# Altium footprint library TerminalBlock_RND.PcbLib: 132 footprints (part 8 of 9)
Each footprint in its own frame and in the unit in brackets; x right, y up, seen from the top. Pads: shape width x height; smd on the part's side, far side on the other; paste and mask are expansions set on the pad; w line width, h text height; cw(c..) or ccw(c..) is an arc to the next point about the centre after c.
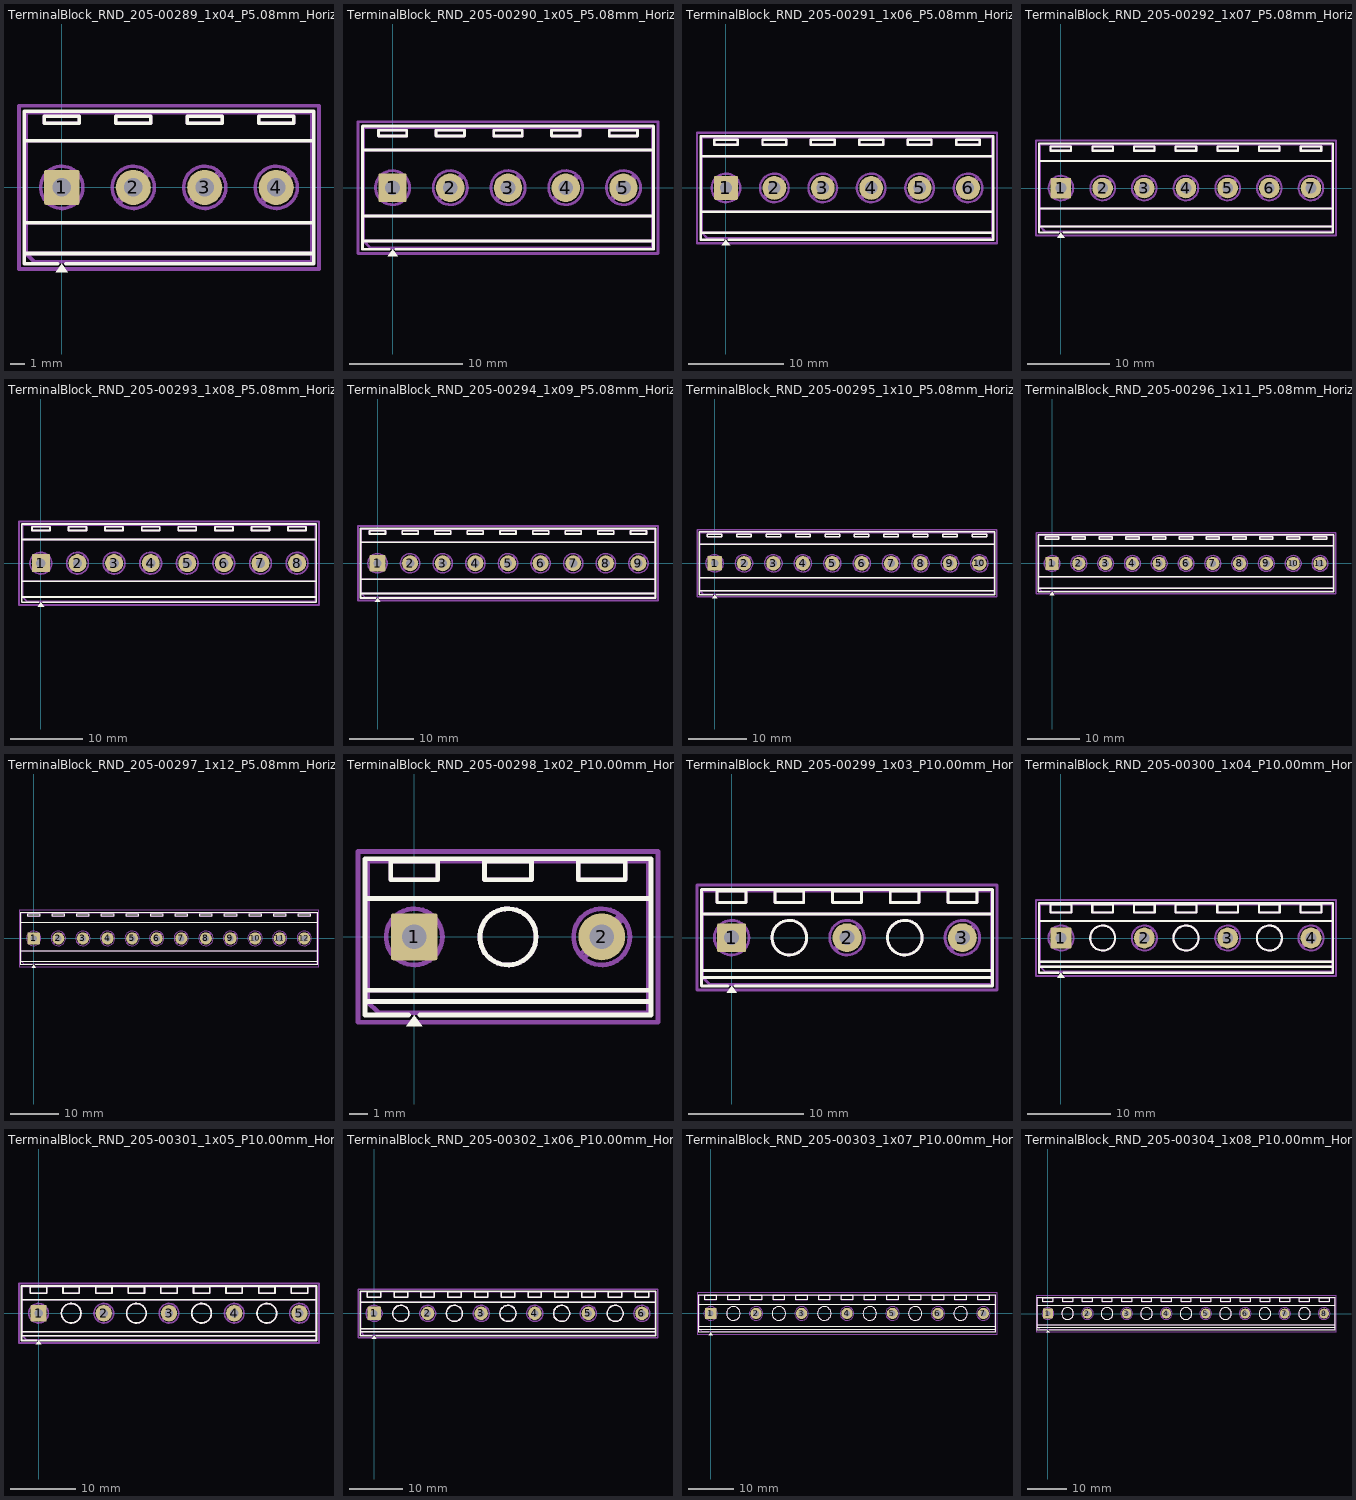
[diagram p7: the footprints below, top view; thin cyan lines are the x and y axes]

## TerminalBlock_RND_205-00289_1x04_P5.08mm_Horizontal [mm]
pads (4):
  rrect10% 2.5x2.5 hole 1.3: 1(0,0)
  round 2.5 hole 1.3: 2(5.08,0) 3(10.16,0) 4(15.24,0)
F.SilkS:
  region: 0.44,-6.03 -0.44,-6.03 0,-5.42
  lines w0.254: -2.66,-4.7 17.9,-4.7 ; -2.66,-2.5 17.9,-2.5 ; -2.66,3.3 17.9,3.3 ; -0.3,-5.42 -2.66,-5.42 -2.66,5.42 17.9,5.42 17.9,-5.42 0.3,-5.42 ; -1.25,4.55 -1.25,5.05 1.25,5.05 1.25,4.55 -1.25,4.55 ; 3.83,4.55 3.83,5.05 6.33,5.05 6.33,4.55 3.83,4.55 ; 8.91,4.55 8.91,5.05 11.41,5.05 11.41,4.55 8.91,4.55 ; 13.99,4.55 13.99,5.05 16.49,5.05 16.49,4.55 13.99,4.55
F.Fab:
  circle w0.254: c0,0 r1.5
  circle w0.254: c5.08,0 r1.5
  circle w0.254: c10.16,0 r1.5
  circle w0.254: c15.24,0 r1.5
  lines w0.254: -2.54,-2.5 17.78,-2.5 ; -2.54,3.3 17.78,3.3 ; -1.138,-0.955 0.955,1.138 ; -0.955,-1.138 1.138,0.955 ; 3.942,-0.955 6.035,1.138 ; 4.125,-1.138 6.218,0.955 ; 9.022,-0.955 11.115,1.138 ; 9.205,-1.138 11.298,0.955 ; 14.102,-0.955 16.195,1.138 ; 14.285,-1.138 16.378,0.955 ; 17.78,-4.7 -2.54,-4.7 ; -2.54,-4.7 -2.54,5.3 17.78,5.3 17.78,-5.3 -1.94,-5.3 -2.54,-4.7 ; -1.25,4.55 -1.25,5.05 1.25,5.05 1.25,4.55 -1.25,4.55 ; 3.83,4.55 3.83,5.05 6.33,5.05 6.33,4.55 3.83,4.55 ; 8.91,4.55 8.91,5.05 11.41,5.05 11.41,4.55 8.91,4.55 ; 13.99,4.55 13.99,5.05 16.49,5.05 16.49,4.55 13.99,4.55
  text "'.Designator'" at 3.573,5.58 h1
F.CrtYd:
  lines w0.254: -3.04,-5.8 -3.04,5.8 18.28,5.8 18.28,-5.8 -3.04,-5.8

## TerminalBlock_RND_205-00290_1x05_P5.08mm_Horizontal [mm]
pads (5):
  rrect10% 2.5x2.5 hole 1.3: 1(0,0)
  round 2.5 hole 1.3: 2(5.08,0) 3(10.16,0) 4(15.24,0) 5(20.32,0)
F.SilkS:
  region: 0.44,-6.03 -0.44,-6.03 0,-5.42
  lines w0.254: -2.66,-4.7 22.98,-4.7 ; -2.66,-2.5 22.98,-2.5 ; -2.66,3.3 22.98,3.3 ; -0.3,-5.42 -2.66,-5.42 -2.66,5.42 22.98,5.42 22.98,-5.42 0.3,-5.42 ; -1.25,4.55 -1.25,5.05 1.25,5.05 1.25,4.55 -1.25,4.55 ; 3.83,4.55 3.83,5.05 6.33,5.05 6.33,4.55 3.83,4.55 ; 8.91,4.55 8.91,5.05 11.41,5.05 11.41,4.55 8.91,4.55 ; 13.99,4.55 13.99,5.05 16.49,5.05 16.49,4.55 13.99,4.55 ; 19.07,4.55 19.07,5.05 21.57,5.05 21.57,4.55 19.07,4.55
F.Fab:
  circle w0.254: c0,0 r1.5
  circle w0.254: c5.08,0 r1.5
  circle w0.254: c10.16,0 r1.5
  circle w0.254: c15.24,0 r1.5
  circle w0.254: c20.32,0 r1.5
  lines w0.254: -2.54,-2.5 22.86,-2.5 ; -2.54,3.3 22.86,3.3 ; -1.138,-0.955 0.955,1.138 ; -0.955,-1.138 1.138,0.955 ; 3.942,-0.955 6.035,1.138 ; 4.125,-1.138 6.218,0.955 ; 9.022,-0.955 11.115,1.138 ; 9.205,-1.138 11.298,0.955 ; 14.102,-0.955 16.195,1.138 ; 14.285,-1.138 16.378,0.955 ; 19.182,-0.955 21.275,1.138 ; 19.365,-1.138 21.458,0.955 ; 22.86,-4.7 -2.54,-4.7 ; -2.54,-4.7 -2.54,5.3 22.86,5.3 22.86,-5.3 -1.94,-5.3 -2.54,-4.7 ; -1.25,4.55 -1.25,5.05 1.25,5.05 1.25,4.55 -1.25,4.55 ; 3.83,4.55 3.83,5.05 6.33,5.05 6.33,4.55 3.83,4.55 ; 8.91,4.55 8.91,5.05 11.41,5.05 11.41,4.55 8.91,4.55 ; 13.99,4.55 13.99,5.05 16.49,5.05 16.49,4.55 13.99,4.55 ; 19.07,4.55 19.07,5.05 21.57,5.05 21.57,4.55 19.07,4.55
  text "'.Designator'" at 6.113,5.58 h1
F.CrtYd:
  lines w0.254: -3.04,-5.8 -3.04,5.8 23.36,5.8 23.36,-5.8 -3.04,-5.8

## TerminalBlock_RND_205-00291_1x06_P5.08mm_Horizontal [mm]
pads (6):
  rrect10% 2.5x2.5 hole 1.3: 1(0,0)
  round 2.5 hole 1.3: 2(5.08,0) 3(10.16,0) 4(15.24,0) 5(20.32,0) 6(25.4,0)
F.SilkS:
  region: 0.44,-6.03 -0.44,-6.03 0,-5.42
  lines w0.254: -2.66,-4.7 28.06,-4.7 ; -2.66,-2.5 28.06,-2.5 ; -2.66,3.3 28.06,3.3 ; -0.3,-5.42 -2.66,-5.42 -2.66,5.42 28.06,5.42 28.06,-5.42 0.3,-5.42 ; -1.25,4.55 -1.25,5.05 1.25,5.05 1.25,4.55 -1.25,4.55 ; 3.83,4.55 3.83,5.05 6.33,5.05 6.33,4.55 3.83,4.55 ; 8.91,4.55 8.91,5.05 11.41,5.05 11.41,4.55 8.91,4.55 ; 13.99,4.55 13.99,5.05 16.49,5.05 16.49,4.55 13.99,4.55 ; 19.07,4.55 19.07,5.05 21.57,5.05 21.57,4.55 19.07,4.55 ; 24.15,4.55 24.15,5.05 26.65,5.05 26.65,4.55 24.15,4.55
F.Fab:
  circle w0.254: c0,0 r1.5
  circle w0.254: c5.08,0 r1.5
  circle w0.254: c10.16,0 r1.5
  circle w0.254: c15.24,0 r1.5
  circle w0.254: c20.32,0 r1.5
  circle w0.254: c25.4,0 r1.5
  lines w0.254: -2.54,-2.5 27.94,-2.5 ; -2.54,3.3 27.94,3.3 ; -1.138,-0.955 0.955,1.138 ; -0.955,-1.138 1.138,0.955 ; 3.942,-0.955 6.035,1.138 ; 4.125,-1.138 6.218,0.955 ; 9.022,-0.955 11.115,1.138 ; 9.205,-1.138 11.298,0.955 ; 14.102,-0.955 16.195,1.138 ; 14.285,-1.138 16.378,0.955 ; 19.182,-0.955 21.275,1.138 ; 19.365,-1.138 21.458,0.955 ; 24.262,-0.955 26.355,1.138 ; 24.445,-1.138 26.538,0.955 ; 27.94,-4.7 -2.54,-4.7 ; -2.54,-4.7 -2.54,5.3 27.94,5.3 27.94,-5.3 -1.94,-5.3 -2.54,-4.7 ; -1.25,4.55 -1.25,5.05 1.25,5.05 1.25,4.55 -1.25,4.55 ; 3.83,4.55 3.83,5.05 6.33,5.05 6.33,4.55 3.83,4.55 ; 8.91,4.55 8.91,5.05 11.41,5.05 11.41,4.55 8.91,4.55 ; 13.99,4.55 13.99,5.05 16.49,5.05 16.49,4.55 13.99,4.55 ; 19.07,4.55 19.07,5.05 21.57,5.05 21.57,4.55 19.07,4.55 ; 24.15,4.55 24.15,5.05 26.65,5.05 26.65,4.55 24.15,4.55
  text "'.Designator'" at 8.653,5.58 h1
F.CrtYd:
  lines w0.254: -3.04,-5.8 -3.04,5.8 28.44,5.8 28.44,-5.8 -3.04,-5.8

## TerminalBlock_RND_205-00292_1x07_P5.08mm_Horizontal [mm]
pads (7):
  rrect10% 2.5x2.5 hole 1.3: 1(0,0)
  round 2.5 hole 1.3: 2(5.08,0) 3(10.16,0) 4(15.24,0) 5(20.32,0) 6(25.4,0) 7(30.48,0)
F.SilkS:
  region: 0.44,-6.03 -0.44,-6.03 0,-5.42
  lines w0.254: -2.66,-4.7 33.14,-4.7 ; -2.66,-2.5 33.14,-2.5 ; -2.66,3.3 33.14,3.3 ; -0.3,-5.42 -2.66,-5.42 -2.66,5.42 33.14,5.42 33.14,-5.42 0.3,-5.42 ; -1.25,4.55 -1.25,5.05 1.25,5.05 1.25,4.55 -1.25,4.55 ; 3.83,4.55 3.83,5.05 6.33,5.05 6.33,4.55 3.83,4.55 ; 8.91,4.55 8.91,5.05 11.41,5.05 11.41,4.55 8.91,4.55 ; 13.99,4.55 13.99,5.05 16.49,5.05 16.49,4.55 13.99,4.55 ; 19.07,4.55 19.07,5.05 21.57,5.05 21.57,4.55 19.07,4.55 ; 24.15,4.55 24.15,5.05 26.65,5.05 26.65,4.55 24.15,4.55 ; 29.23,4.55 29.23,5.05 31.73,5.05 31.73,4.55 29.23,4.55
F.Fab:
  circle w0.254: c0,0 r1.5
  circle w0.254: c5.08,0 r1.5
  circle w0.254: c10.16,0 r1.5
  circle w0.254: c15.24,0 r1.5
  circle w0.254: c20.32,0 r1.5
  circle w0.254: c25.4,0 r1.5
  circle w0.254: c30.48,0 r1.5
  lines w0.254: -2.54,-2.5 33.02,-2.5 ; -2.54,3.3 33.02,3.3 ; -1.138,-0.955 0.955,1.138 ; -0.955,-1.138 1.138,0.955 ; 3.942,-0.955 6.035,1.138 ; 4.125,-1.138 6.218,0.955 ; 9.022,-0.955 11.115,1.138 ; 9.205,-1.138 11.298,0.955 ; 14.102,-0.955 16.195,1.138 ; 14.285,-1.138 16.378,0.955 ; 19.182,-0.955 21.275,1.138 ; 19.365,-1.138 21.458,0.955 ; 24.262,-0.955 26.355,1.138 ; 24.445,-1.138 26.538,0.955 ; 29.342,-0.955 31.435,1.138 ; 29.525,-1.138 31.618,0.955 ; 33.02,-4.7 -2.54,-4.7 ; -2.54,-4.7 -2.54,5.3 33.02,5.3 33.02,-5.3 -1.94,-5.3 -2.54,-4.7 ; -1.25,4.55 -1.25,5.05 1.25,5.05 1.25,4.55 -1.25,4.55 ; 3.83,4.55 3.83,5.05 6.33,5.05 6.33,4.55 3.83,4.55 ; 8.91,4.55 8.91,5.05 11.41,5.05 11.41,4.55 8.91,4.55 ; 13.99,4.55 13.99,5.05 16.49,5.05 16.49,4.55 13.99,4.55 ; 19.07,4.55 19.07,5.05 21.57,5.05 21.57,4.55 19.07,4.55 ; 24.15,4.55 24.15,5.05 26.65,5.05 26.65,4.55 24.15,4.55 ; 29.23,4.55 29.23,5.05 31.73,5.05 31.73,4.55 29.23,4.55
  text "'.Designator'" at 11.193,5.58 h1
F.CrtYd:
  lines w0.254: -3.04,-5.8 -3.04,5.8 33.53,5.8 33.53,-5.8 -3.04,-5.8

## TerminalBlock_RND_205-00293_1x08_P5.08mm_Horizontal [mm]
pads (8):
  rrect10% 2.5x2.5 hole 1.3: 1(0,0)
  round 2.5 hole 1.3: 2(5.08,0) 3(10.16,0) 4(15.24,0) 5(20.32,0) 6(25.4,0) 7(30.48,0) 8(35.56,0)
F.SilkS:
  region: 0.44,-6.03 -0.44,-6.03 0,-5.42
  lines w0.254: -2.66,-4.7 38.22,-4.7 ; -2.66,-2.5 38.22,-2.5 ; -2.66,3.3 38.22,3.3 ; -0.3,-5.42 -2.66,-5.42 -2.66,5.42 38.22,5.42 38.22,-5.42 0.3,-5.42 ; -1.25,4.55 -1.25,5.05 1.25,5.05 1.25,4.55 -1.25,4.55 ; 3.83,4.55 3.83,5.05 6.33,5.05 6.33,4.55 3.83,4.55 ; 8.91,4.55 8.91,5.05 11.41,5.05 11.41,4.55 8.91,4.55 ; 13.99,4.55 13.99,5.05 16.49,5.05 16.49,4.55 13.99,4.55 ; 19.07,4.55 19.07,5.05 21.57,5.05 21.57,4.55 19.07,4.55 ; 24.15,4.55 24.15,5.05 26.65,5.05 26.65,4.55 24.15,4.55 ; 29.23,4.55 29.23,5.05 31.73,5.05 31.73,4.55 29.23,4.55 ; 34.31,4.55 34.31,5.05 36.81,5.05 36.81,4.55 34.31,4.55
F.Fab:
  circle w0.254: c0,0 r1.5
  circle w0.254: c5.08,0 r1.5
  circle w0.254: c10.16,0 r1.5
  circle w0.254: c15.24,0 r1.5
  circle w0.254: c20.32,0 r1.5
  circle w0.254: c25.4,0 r1.5
  circle w0.254: c30.48,0 r1.5
  circle w0.254: c35.56,0 r1.5
  lines w0.254: -2.54,-2.5 38.1,-2.5 ; -2.54,3.3 38.1,3.3 ; -1.138,-0.955 0.955,1.138 ; -0.955,-1.138 1.138,0.955 ; 3.942,-0.955 6.035,1.138 ; 4.125,-1.138 6.218,0.955 ; 9.022,-0.955 11.115,1.138 ; 9.205,-1.138 11.298,0.955 ; 14.102,-0.955 16.195,1.138 ; 14.285,-1.138 16.378,0.955 ; 19.182,-0.955 21.275,1.138 ; 19.365,-1.138 21.458,0.955 ; 24.262,-0.955 26.355,1.138 ; 24.445,-1.138 26.538,0.955 ; 29.342,-0.955 31.435,1.138 ; 29.525,-1.138 31.618,0.955 ; 34.422,-0.955 36.515,1.138 ; 34.605,-1.138 36.698,0.955 ; 38.1,-4.7 -2.54,-4.7 ; -2.54,-4.7 -2.54,5.3 38.1,5.3 38.1,-5.3 -1.94,-5.3 -2.54,-4.7 ; -1.25,4.55 -1.25,5.05 1.25,5.05 1.25,4.55 -1.25,4.55 ; 3.83,4.55 3.83,5.05 6.33,5.05 6.33,4.55 3.83,4.55 ; 8.91,4.55 8.91,5.05 11.41,5.05 11.41,4.55 8.91,4.55 ; 13.99,4.55 13.99,5.05 16.49,5.05 16.49,4.55 13.99,4.55 ; 19.07,4.55 19.07,5.05 21.57,5.05 21.57,4.55 19.07,4.55 ; 24.15,4.55 24.15,5.05 26.65,5.05 26.65,4.55 24.15,4.55 ; 29.23,4.55 29.23,5.05 31.73,5.05 31.73,4.55 29.23,4.55 ; 34.31,4.55 34.31,5.05 36.81,5.05 36.81,4.55 34.31,4.55
  text "'.Designator'" at 13.733,5.58 h1
F.CrtYd:
  lines w0.254: -3.04,-5.8 -3.04,5.8 38.6,5.8 38.6,-5.8 -3.04,-5.8

## TerminalBlock_RND_205-00294_1x09_P5.08mm_Horizontal [mm]
pads (9):
  rrect10% 2.5x2.5 hole 1.3: 1(0,0)
  round 2.5 hole 1.3: 2(5.08,0) 3(10.16,0) 4(15.24,0) 5(20.32,0) 6(25.4,0) 7(30.48,0) 8(35.56,0) 9(40.64,0)
F.SilkS:
  region: 0.44,-6.03 -0.44,-6.03 0,-5.42
  lines w0.254: -2.66,-4.7 43.3,-4.7 ; -2.66,-2.5 43.3,-2.5 ; -2.66,3.3 43.3,3.3 ; -0.3,-5.42 -2.66,-5.42 -2.66,5.42 43.3,5.42 43.3,-5.42 0.3,-5.42 ; -1.25,4.55 -1.25,5.05 1.25,5.05 1.25,4.55 -1.25,4.55 ; 3.83,4.55 3.83,5.05 6.33,5.05 6.33,4.55 3.83,4.55 ; 8.91,4.55 8.91,5.05 11.41,5.05 11.41,4.55 8.91,4.55 ; 13.99,4.55 13.99,5.05 16.49,5.05 16.49,4.55 13.99,4.55 ; 19.07,4.55 19.07,5.05 21.57,5.05 21.57,4.55 19.07,4.55 ; 24.15,4.55 24.15,5.05 26.65,5.05 26.65,4.55 24.15,4.55 ; 29.23,4.55 29.23,5.05 31.73,5.05 31.73,4.55 29.23,4.55 ; 34.31,4.55 34.31,5.05 36.81,5.05 36.81,4.55 34.31,4.55 ; 39.39,4.55 39.39,5.05 41.89,5.05 41.89,4.55 39.39,4.55
F.Fab:
  circle w0.254: c0,0 r1.5
  circle w0.254: c5.08,0 r1.5
  circle w0.254: c10.16,0 r1.5
  circle w0.254: c15.24,0 r1.5
  circle w0.254: c20.32,0 r1.5
  circle w0.254: c25.4,0 r1.5
  circle w0.254: c30.48,0 r1.5
  circle w0.254: c35.56,0 r1.5
  circle w0.254: c40.64,0 r1.5
  lines w0.254: -2.54,-2.5 43.18,-2.5 ; -2.54,3.3 43.18,3.3 ; -1.138,-0.955 0.955,1.138 ; -0.955,-1.138 1.138,0.955 ; 3.942,-0.955 6.035,1.138 ; 4.125,-1.138 6.218,0.955 ; 9.022,-0.955 11.115,1.138 ; 9.205,-1.138 11.298,0.955 ; 14.102,-0.955 16.195,1.138 ; 14.285,-1.138 16.378,0.955 ; 19.182,-0.955 21.275,1.138 ; 19.365,-1.138 21.458,0.955 ; 24.262,-0.955 26.355,1.138 ; 24.445,-1.138 26.538,0.955 ; 29.342,-0.955 31.435,1.138 ; 29.525,-1.138 31.618,0.955 ; 34.422,-0.955 36.515,1.138 ; 34.605,-1.138 36.698,0.955 ; 39.502,-0.955 41.595,1.138 ; 39.685,-1.138 41.778,0.955 ; 43.18,-4.7 -2.54,-4.7 ; -2.54,-4.7 -2.54,5.3 43.18,5.3 43.18,-5.3 -1.94,-5.3 -2.54,-4.7 ; -1.25,4.55 -1.25,5.05 1.25,5.05 1.25,4.55 -1.25,4.55 ; 3.83,4.55 3.83,5.05 6.33,5.05 6.33,4.55 3.83,4.55 ; 8.91,4.55 8.91,5.05 11.41,5.05 11.41,4.55 8.91,4.55 ; 13.99,4.55 13.99,5.05 16.49,5.05 16.49,4.55 13.99,4.55 ; 19.07,4.55 19.07,5.05 21.57,5.05 21.57,4.55 19.07,4.55 ; 24.15,4.55 24.15,5.05 26.65,5.05 26.65,4.55 24.15,4.55 ; 29.23,4.55 29.23,5.05 31.73,5.05 31.73,4.55 29.23,4.55 ; 34.31,4.55 34.31,5.05 36.81,5.05 36.81,4.55 34.31,4.55 ; 39.39,4.55 39.39,5.05 41.89,5.05 41.89,4.55 39.39,4.55
  text "'.Designator'" at 16.273,5.58 h1
F.CrtYd:
  lines w0.254: -3.04,-5.8 -3.04,5.8 43.68,5.8 43.68,-5.8 -3.04,-5.8

## TerminalBlock_RND_205-00295_1x10_P5.08mm_Horizontal [mm]
pads (10):
  rrect10% 2.5x2.5 hole 1.3: 1(0,0)
  round 2.5 hole 1.3: 2(5.08,0) 3(10.16,0) 4(15.24,0) 5(20.32,0) 6(25.4,0) 7(30.48,0) 8(35.56,0) 9(40.64,0) 10(45.72,0)
F.SilkS:
  region: 0.44,-6.03 -0.44,-6.03 0,-5.42
  lines w0.254: -2.66,-4.7 48.38,-4.7 ; -2.66,-2.5 48.38,-2.5 ; -2.66,3.3 48.38,3.3 ; -0.3,-5.42 -2.66,-5.42 -2.66,5.42 48.38,5.42 48.38,-5.42 0.3,-5.42 ; -1.25,4.55 -1.25,5.05 1.25,5.05 1.25,4.55 -1.25,4.55 ; 3.83,4.55 3.83,5.05 6.33,5.05 6.33,4.55 3.83,4.55 ; 8.91,4.55 8.91,5.05 11.41,5.05 11.41,4.55 8.91,4.55 ; 13.99,4.55 13.99,5.05 16.49,5.05 16.49,4.55 13.99,4.55 ; 19.07,4.55 19.07,5.05 21.57,5.05 21.57,4.55 19.07,4.55 ; 24.15,4.55 24.15,5.05 26.65,5.05 26.65,4.55 24.15,4.55 ; 29.23,4.55 29.23,5.05 31.73,5.05 31.73,4.55 29.23,4.55 ; 34.31,4.55 34.31,5.05 36.81,5.05 36.81,4.55 34.31,4.55 ; 39.39,4.55 39.39,5.05 41.89,5.05 41.89,4.55 39.39,4.55 ; 44.47,4.55 44.47,5.05 46.97,5.05 46.97,4.55 44.47,4.55
F.Fab:
  circle w0.254: c0,0 r1.5
  circle w0.254: c5.08,0 r1.5
  circle w0.254: c10.16,0 r1.5
  circle w0.254: c15.24,0 r1.5
  circle w0.254: c20.32,0 r1.5
  circle w0.254: c25.4,0 r1.5
  circle w0.254: c30.48,0 r1.5
  circle w0.254: c35.56,0 r1.5
  circle w0.254: c40.64,0 r1.5
  circle w0.254: c45.72,0 r1.5
  lines w0.254: -2.54,-2.5 48.26,-2.5 ; -2.54,3.3 48.26,3.3 ; -1.138,-0.955 0.955,1.138 ; -0.955,-1.138 1.138,0.955 ; 3.942,-0.955 6.035,1.138 ; 4.125,-1.138 6.218,0.955 ; 9.022,-0.955 11.115,1.138 ; 9.205,-1.138 11.298,0.955 ; 14.102,-0.955 16.195,1.138 ; 14.285,-1.138 16.378,0.955 ; 19.182,-0.955 21.275,1.138 ; 19.365,-1.138 21.458,0.955 ; 24.262,-0.955 26.355,1.138 ; 24.445,-1.138 26.538,0.955 ; 29.342,-0.955 31.435,1.138 ; 29.525,-1.138 31.618,0.955 ; 34.422,-0.955 36.515,1.138 ; 34.605,-1.138 36.698,0.955 ; 39.502,-0.955 41.595,1.138 ; 39.685,-1.138 41.778,0.955 ; 44.582,-0.955 46.675,1.138 ; 44.765,-1.138 46.858,0.955 ; 48.26,-4.7 -2.54,-4.7 ; -2.54,-4.7 -2.54,5.3 48.26,5.3 48.26,-5.3 -1.94,-5.3 -2.54,-4.7 ; -1.25,4.55 -1.25,5.05 1.25,5.05 1.25,4.55 -1.25,4.55 ; 3.83,4.55 3.83,5.05 6.33,5.05 6.33,4.55 3.83,4.55 ; 8.91,4.55 8.91,5.05 11.41,5.05 11.41,4.55 8.91,4.55 ; 13.99,4.55 13.99,5.05 16.49,5.05 16.49,4.55 13.99,4.55 ; 19.07,4.55 19.07,5.05 21.57,5.05 21.57,4.55 19.07,4.55 ; 24.15,4.55 24.15,5.05 26.65,5.05 26.65,4.55 24.15,4.55 ; 29.23,4.55 29.23,5.05 31.73,5.05 31.73,4.55 29.23,4.55 ; 34.31,4.55 34.31,5.05 36.81,5.05 36.81,4.55 34.31,4.55 ; 39.39,4.55 39.39,5.05 41.89,5.05 41.89,4.55 39.39,4.55 ; 44.47,4.55 44.47,5.05 46.97,5.05 46.97,4.55 44.47,4.55
  text "'.Designator'" at 18.813,5.58 h1
F.CrtYd:
  lines w0.254: -3.04,-5.8 -3.04,5.8 48.76,5.8 48.76,-5.8 -3.04,-5.8

## TerminalBlock_RND_205-00296_1x11_P5.08mm_Horizontal [mm]
pads (11):
  rrect10% 2.5x2.5 hole 1.3: 1(0,0)
  round 2.5 hole 1.3: 2(5.08,0) 3(10.16,0) 4(15.24,0) 5(20.32,0) 6(25.4,0) 7(30.48,0) 8(35.56,0) 9(40.64,0) 10(45.72,0) 11(50.8,0)
F.SilkS:
  region: 0.44,-6.03 -0.44,-6.03 0,-5.42
  lines w0.254: -2.66,-4.7 53.46,-4.7 ; -2.66,-2.5 53.46,-2.5 ; -2.66,3.3 53.46,3.3 ; -0.3,-5.42 -2.66,-5.42 -2.66,5.42 53.46,5.42 53.46,-5.42 0.3,-5.42 ; -1.25,4.55 -1.25,5.05 1.25,5.05 1.25,4.55 -1.25,4.55 ; 3.83,4.55 3.83,5.05 6.33,5.05 6.33,4.55 3.83,4.55 ; 8.91,4.55 8.91,5.05 11.41,5.05 11.41,4.55 8.91,4.55 ; 13.99,4.55 13.99,5.05 16.49,5.05 16.49,4.55 13.99,4.55 ; 19.07,4.55 19.07,5.05 21.57,5.05 21.57,4.55 19.07,4.55 ; 24.15,4.55 24.15,5.05 26.65,5.05 26.65,4.55 24.15,4.55 ; 29.23,4.55 29.23,5.05 31.73,5.05 31.73,4.55 29.23,4.55 ; 34.31,4.55 34.31,5.05 36.81,5.05 36.81,4.55 34.31,4.55 ; 39.39,4.55 39.39,5.05 41.89,5.05 41.89,4.55 39.39,4.55 ; 44.47,4.55 44.47,5.05 46.97,5.05 46.97,4.55 44.47,4.55 ; 49.55,4.55 49.55,5.05 52.05,5.05 52.05,4.55 49.55,4.55
F.Fab:
  circle w0.254: c0,0 r1.5
  circle w0.254: c5.08,0 r1.5
  circle w0.254: c10.16,0 r1.5
  circle w0.254: c15.24,0 r1.5
  circle w0.254: c20.32,0 r1.5
  circle w0.254: c25.4,0 r1.5
  circle w0.254: c30.48,0 r1.5
  circle w0.254: c35.56,0 r1.5
  circle w0.254: c40.64,0 r1.5
  circle w0.254: c45.72,0 r1.5
  circle w0.254: c50.8,0 r1.5
  lines w0.254: -2.54,-2.5 53.34,-2.5 ; -2.54,3.3 53.34,3.3 ; -1.138,-0.955 0.955,1.138 ; -0.955,-1.138 1.138,0.955 ; 3.942,-0.955 6.035,1.138 ; 4.125,-1.138 6.218,0.955 ; 9.022,-0.955 11.115,1.138 ; 9.205,-1.138 11.298,0.955 ; 14.102,-0.955 16.195,1.138 ; 14.285,-1.138 16.378,0.955 ; 19.182,-0.955 21.275,1.138 ; 19.365,-1.138 21.458,0.955 ; 24.262,-0.955 26.355,1.138 ; 24.445,-1.138 26.538,0.955 ; 29.342,-0.955 31.435,1.138 ; 29.525,-1.138 31.618,0.955 ; 34.422,-0.955 36.515,1.138 ; 34.605,-1.138 36.698,0.955 ; 39.502,-0.955 41.595,1.138 ; 39.685,-1.138 41.778,0.955 ; 44.582,-0.955 46.675,1.138 ; 44.765,-1.138 46.858,0.955 ; 49.662,-0.955 51.755,1.138 ; 49.845,-1.138 51.938,0.955 ; 53.34,-4.7 -2.54,-4.7 ; -2.54,-4.7 -2.54,5.3 53.34,5.3 53.34,-5.3 -1.94,-5.3 -2.54,-4.7 ; -1.25,4.55 -1.25,5.05 1.25,5.05 1.25,4.55 -1.25,4.55 ; 3.83,4.55 3.83,5.05 6.33,5.05 6.33,4.55 3.83,4.55 ; 8.91,4.55 8.91,5.05 11.41,5.05 11.41,4.55 8.91,4.55 ; 13.99,4.55 13.99,5.05 16.49,5.05 16.49,4.55 13.99,4.55 ; 19.07,4.55 19.07,5.05 21.57,5.05 21.57,4.55 19.07,4.55 ; 24.15,4.55 24.15,5.05 26.65,5.05 26.65,4.55 24.15,4.55 ; 29.23,4.55 29.23,5.05 31.73,5.05 31.73,4.55 29.23,4.55 ; 34.31,4.55 34.31,5.05 36.81,5.05 36.81,4.55 34.31,4.55 ; 39.39,4.55 39.39,5.05 41.89,5.05 41.89,4.55 39.39,4.55 ; 44.47,4.55 44.47,5.05 46.97,5.05 46.97,4.55 44.47,4.55 ; 49.55,4.55 49.55,5.05 52.05,5.05 52.05,4.55 49.55,4.55
  text "'.Designator'" at 21.353,5.58 h1
F.CrtYd:
  lines w0.254: -3.04,-5.8 -3.04,5.8 53.84,5.8 53.84,-5.8 -3.04,-5.8

## TerminalBlock_RND_205-00297_1x12_P5.08mm_Horizontal [mm]
pads (12):
  rrect10% 2.5x2.5 hole 1.3: 1(0,0)
  round 2.5 hole 1.3: 2(5.08,0) 3(10.16,0) 4(15.24,0) 5(20.32,0) 6(25.4,0) 7(30.48,0) 8(35.56,0) 9(40.64,0) 10(45.72,0) 11(50.8,0) 12(55.88,0)
F.SilkS:
  region: 0.44,-6.03 -0.44,-6.03 0,-5.42
  lines w0.254: -2.66,-4.7 58.54,-4.7 ; -2.66,-2.5 58.54,-2.5 ; -2.66,3.3 58.54,3.3 ; -0.3,-5.42 -2.66,-5.42 -2.66,5.42 58.54,5.42 58.54,-5.42 0.3,-5.42 ; -1.25,4.55 -1.25,5.05 1.25,5.05 1.25,4.55 -1.25,4.55 ; 3.83,4.55 3.83,5.05 6.33,5.05 6.33,4.55 3.83,4.55 ; 8.91,4.55 8.91,5.05 11.41,5.05 11.41,4.55 8.91,4.55 ; 13.99,4.55 13.99,5.05 16.49,5.05 16.49,4.55 13.99,4.55 ; 19.07,4.55 19.07,5.05 21.57,5.05 21.57,4.55 19.07,4.55 ; 24.15,4.55 24.15,5.05 26.65,5.05 26.65,4.55 24.15,4.55 ; 29.23,4.55 29.23,5.05 31.73,5.05 31.73,4.55 29.23,4.55 ; 34.31,4.55 34.31,5.05 36.81,5.05 36.81,4.55 34.31,4.55 ; 39.39,4.55 39.39,5.05 41.89,5.05 41.89,4.55 39.39,4.55 ; 44.47,4.55 44.47,5.05 46.97,5.05 46.97,4.55 44.47,4.55 ; 49.55,4.55 49.55,5.05 52.05,5.05 52.05,4.55 49.55,4.55 ; 54.63,4.55 54.63,5.05 57.13,5.05 57.13,4.55 54.63,4.55
F.Fab:
  circle w0.254: c0,0 r1.5
  circle w0.254: c5.08,0 r1.5
  circle w0.254: c10.16,0 r1.5
  circle w0.254: c15.24,0 r1.5
  circle w0.254: c20.32,0 r1.5
  circle w0.254: c25.4,0 r1.5
  circle w0.254: c30.48,0 r1.5
  circle w0.254: c35.56,0 r1.5
  circle w0.254: c40.64,0 r1.5
  circle w0.254: c45.72,0 r1.5
  circle w0.254: c50.8,0 r1.5
  circle w0.254: c55.88,0 r1.5
  lines w0.254: -2.54,-2.5 58.42,-2.5 ; -2.54,3.3 58.42,3.3 ; -1.138,-0.955 0.955,1.138 ; -0.955,-1.138 1.138,0.955 ; 3.942,-0.955 6.035,1.138 ; 4.125,-1.138 6.218,0.955 ; 9.022,-0.955 11.115,1.138 ; 9.205,-1.138 11.298,0.955 ; 14.102,-0.955 16.195,1.138 ; 14.285,-1.138 16.378,0.955 ; 19.182,-0.955 21.275,1.138 ; 19.365,-1.138 21.458,0.955 ; 24.262,-0.955 26.355,1.138 ; 24.445,-1.138 26.538,0.955 ; 29.342,-0.955 31.435,1.138 ; 29.525,-1.138 31.618,0.955 ; 34.422,-0.955 36.515,1.138 ; 34.605,-1.138 36.698,0.955 ; 39.502,-0.955 41.595,1.138 ; 39.685,-1.138 41.778,0.955 ; 44.582,-0.955 46.675,1.138 ; 44.765,-1.138 46.858,0.955 ; 49.662,-0.955 51.755,1.138 ; 49.845,-1.138 51.938,0.955 ; 54.742,-0.955 56.835,1.138 ; 54.925,-1.138 57.018,0.955 ; 58.42,-4.7 -2.54,-4.7 ; -2.54,-4.7 -2.54,5.3 58.42,5.3 58.42,-5.3 -1.94,-5.3 -2.54,-4.7 ; -1.25,4.55 -1.25,5.05 1.25,5.05 1.25,4.55 -1.25,4.55 ; 3.83,4.55 3.83,5.05 6.33,5.05 6.33,4.55 3.83,4.55 ; 8.91,4.55 8.91,5.05 11.41,5.05 11.41,4.55 8.91,4.55 ; 13.99,4.55 13.99,5.05 16.49,5.05 16.49,4.55 13.99,4.55 ; 19.07,4.55 19.07,5.05 21.57,5.05 21.57,4.55 19.07,4.55 ; 24.15,4.55 24.15,5.05 26.65,5.05 26.65,4.55 24.15,4.55 ; 29.23,4.55 29.23,5.05 31.73,5.05 31.73,4.55 29.23,4.55 ; 34.31,4.55 34.31,5.05 36.81,5.05 36.81,4.55 34.31,4.55 ; 39.39,4.55 39.39,5.05 41.89,5.05 41.89,4.55 39.39,4.55 ; 44.47,4.55 44.47,5.05 46.97,5.05 46.97,4.55 44.47,4.55 ; 49.55,4.55 49.55,5.05 52.05,5.05 52.05,4.55 49.55,4.55 ; 54.63,4.55 54.63,5.05 57.13,5.05 57.13,4.55 54.63,4.55
  text "'.Designator'" at 23.893,5.58 h1
F.CrtYd:
  lines w0.254: -3.04,-5.8 -3.04,5.8 58.92,5.8 58.92,-5.8 -3.04,-5.8

## TerminalBlock_RND_205-00298_1x02_P10.00mm_Horizontal [mm]
pads (2):
  rrect10% 2.5x2.5 hole 1.3: 1(0,0)
  round 2.5 hole 1.3: 2(10,0)
F.SilkS:
  circle w0.254: c5,0 r1.5
  region: 0.44,-4.78 -0.44,-4.78 0,-4.17
  lines w0.254: -2.62,-3.45 12.62,-3.45 ; -2.62,-2.85 12.62,-2.85 ; -2.62,2.05 12.62,2.05 ; -0.3,-4.17 -2.62,-4.17 -2.62,4.17 12.62,4.17 12.62,-4.17 0.3,-4.17 ; -1.25,3.05 -1.25,4.05 1.25,4.05 1.25,3.05 -1.25,3.05 ; 3.75,3.05 3.75,4.05 6.25,4.05 6.25,3.05 3.75,3.05 ; 8.75,3.05 8.75,4.05 11.25,4.05 11.25,3.05 8.75,3.05
F.Fab:
  circle w0.254: c0,0 r1.5
  circle w0.254: c5,0 r1.5
  circle w0.254: c10,0 r1.5
  lines w0.254: -2.5,-2.85 12.5,-2.85 ; -2.5,2.05 12.5,2.05 ; -1.138,-0.955 0.955,1.138 ; -0.955,-1.138 1.138,0.955 ; 8.862,-0.955 10.955,1.138 ; 9.045,-1.138 11.138,0.955 ; 12.5,-3.45 -2.5,-3.45 ; -2.5,-3.45 -2.5,4.05 12.5,4.05 12.5,-4.05 -1.9,-4.05 -2.5,-3.45 ; -1.25,3.05 -1.25,4.05 1.25,4.05 1.25,3.05 -1.25,3.05 ; 3.75,3.05 3.75,4.05 6.25,4.05 6.25,3.05 3.75,3.05 ; 8.75,3.05 8.75,4.05 11.25,4.05 11.25,3.05 8.75,3.05
  text "'.Designator'" at 0.953,4.33 h1
F.CrtYd:
  lines w0.254: -3,-4.55 -3,4.55 13,4.55 13,-4.55 -3,-4.55

## TerminalBlock_RND_205-00299_1x03_P10.00mm_Horizontal [mm]
pads (3):
  rrect10% 2.5x2.5 hole 1.3: 1(0,0)
  round 2.5 hole 1.3: 2(10,0) 3(20,0)
F.SilkS:
  circle w0.254: c5,0 r1.5
  circle w0.254: c15,0 r1.5
  region: 0.44,-4.78 -0.44,-4.78 0,-4.17
  lines w0.254: -2.62,-3.45 22.62,-3.45 ; -2.62,-2.85 22.62,-2.85 ; -2.62,2.05 22.62,2.05 ; -0.3,-4.17 -2.62,-4.17 -2.62,4.17 22.62,4.17 22.62,-4.17 0.3,-4.17 ; -1.25,3.05 -1.25,4.05 1.25,4.05 1.25,3.05 -1.25,3.05 ; 3.75,3.05 3.75,4.05 6.25,4.05 6.25,3.05 3.75,3.05 ; 8.75,3.05 8.75,4.05 11.25,4.05 11.25,3.05 8.75,3.05 ; 13.75,3.05 13.75,4.05 16.25,4.05 16.25,3.05 13.75,3.05 ; 18.75,3.05 18.75,4.05 21.25,4.05 21.25,3.05 18.75,3.05
F.Fab:
  circle w0.254: c0,0 r1.5
  circle w0.254: c5,0 r1.5
  circle w0.254: c10,0 r1.5
  circle w0.254: c15,0 r1.5
  circle w0.254: c20,0 r1.5
  lines w0.254: -2.5,-2.85 22.5,-2.85 ; -2.5,2.05 22.5,2.05 ; -1.138,-0.955 0.955,1.138 ; -0.955,-1.138 1.138,0.955 ; 8.862,-0.955 10.955,1.138 ; 9.045,-1.138 11.138,0.955 ; 18.862,-0.955 20.955,1.138 ; 19.045,-1.138 21.138,0.955 ; 22.5,-3.45 -2.5,-3.45 ; -2.5,-3.45 -2.5,4.05 22.5,4.05 22.5,-4.05 -1.9,-4.05 -2.5,-3.45 ; -1.25,3.05 -1.25,4.05 1.25,4.05 1.25,3.05 -1.25,3.05 ; 3.75,3.05 3.75,4.05 6.25,4.05 6.25,3.05 3.75,3.05 ; 8.75,3.05 8.75,4.05 11.25,4.05 11.25,3.05 8.75,3.05 ; 13.75,3.05 13.75,4.05 16.25,4.05 16.25,3.05 13.75,3.05 ; 18.75,3.05 18.75,4.05 21.25,4.05 21.25,3.05 18.75,3.05
  text "'.Designator'" at 5.953,4.33 h1
F.CrtYd:
  lines w0.254: -3,-4.55 -3,4.55 23,4.55 23,-4.55 -3,-4.55

## TerminalBlock_RND_205-00300_1x04_P10.00mm_Horizontal [mm]
pads (4):
  rrect10% 2.5x2.5 hole 1.3: 1(0,0)
  round 2.5 hole 1.3: 2(10,0) 3(20,0) 4(30,0)
F.SilkS:
  circle w0.254: c5,0 r1.5
  circle w0.254: c15,0 r1.5
  circle w0.254: c25,0 r1.5
  region: 0.44,-4.78 -0.44,-4.78 0,-4.17
  lines w0.254: -2.62,-3.45 32.62,-3.45 ; -2.62,-2.85 32.62,-2.85 ; -2.62,2.05 32.62,2.05 ; -0.3,-4.17 -2.62,-4.17 -2.62,4.17 32.62,4.17 32.62,-4.17 0.3,-4.17 ; -1.25,3.05 -1.25,4.05 1.25,4.05 1.25,3.05 -1.25,3.05 ; 3.75,3.05 3.75,4.05 6.25,4.05 6.25,3.05 3.75,3.05 ; 8.75,3.05 8.75,4.05 11.25,4.05 11.25,3.05 8.75,3.05 ; 13.75,3.05 13.75,4.05 16.25,4.05 16.25,3.05 13.75,3.05 ; 18.75,3.05 18.75,4.05 21.25,4.05 21.25,3.05 18.75,3.05 ; 23.75,3.05 23.75,4.05 26.25,4.05 26.25,3.05 23.75,3.05 ; 28.75,3.05 28.75,4.05 31.25,4.05 31.25,3.05 28.75,3.05
F.Fab:
  circle w0.254: c0,0 r1.5
  circle w0.254: c5,0 r1.5
  circle w0.254: c10,0 r1.5
  circle w0.254: c15,0 r1.5
  circle w0.254: c20,0 r1.5
  circle w0.254: c25,0 r1.5
  circle w0.254: c30,0 r1.5
  lines w0.254: -2.5,-2.85 32.5,-2.85 ; -2.5,2.05 32.5,2.05 ; -1.138,-0.955 0.955,1.138 ; -0.955,-1.138 1.138,0.955 ; 8.862,-0.955 10.955,1.138 ; 9.045,-1.138 11.138,0.955 ; 18.862,-0.955 20.955,1.138 ; 19.045,-1.138 21.138,0.955 ; 28.862,-0.955 30.955,1.138 ; 29.045,-1.138 31.138,0.955 ; 32.5,-3.45 -2.5,-3.45 ; -2.5,-3.45 -2.5,4.05 32.5,4.05 32.5,-4.05 -1.9,-4.05 -2.5,-3.45 ; -1.25,3.05 -1.25,4.05 1.25,4.05 1.25,3.05 -1.25,3.05 ; 3.75,3.05 3.75,4.05 6.25,4.05 6.25,3.05 3.75,3.05 ; 8.75,3.05 8.75,4.05 11.25,4.05 11.25,3.05 8.75,3.05 ; 13.75,3.05 13.75,4.05 16.25,4.05 16.25,3.05 13.75,3.05 ; 18.75,3.05 18.75,4.05 21.25,4.05 21.25,3.05 18.75,3.05 ; 23.75,3.05 23.75,4.05 26.25,4.05 26.25,3.05 23.75,3.05 ; 28.75,3.05 28.75,4.05 31.25,4.05 31.25,3.05 28.75,3.05
  text "'.Designator'" at 10.953,4.33 h1
F.CrtYd:
  lines w0.254: -3,-4.55 -3,4.55 33,4.55 33,-4.55 -3,-4.55

## TerminalBlock_RND_205-00301_1x05_P10.00mm_Horizontal [mm]
pads (5):
  rrect10% 2.5x2.5 hole 1.3: 1(0,0)
  round 2.5 hole 1.3: 2(10,0) 3(20,0) 4(30,0) 5(40,0)
F.SilkS:
  circle w0.254: c5,0 r1.5
  circle w0.254: c15,0 r1.5
  circle w0.254: c25,0 r1.5
  circle w0.254: c35,0 r1.5
  region: 0.44,-4.78 -0.44,-4.78 0,-4.17
  lines w0.254: -2.62,-3.45 42.62,-3.45 ; -2.62,-2.85 42.62,-2.85 ; -2.62,2.05 42.62,2.05 ; -0.3,-4.17 -2.62,-4.17 -2.62,4.17 42.62,4.17 42.62,-4.17 0.3,-4.17 ; -1.25,3.05 -1.25,4.05 1.25,4.05 1.25,3.05 -1.25,3.05 ; 3.75,3.05 3.75,4.05 6.25,4.05 6.25,3.05 3.75,3.05 ; 8.75,3.05 8.75,4.05 11.25,4.05 11.25,3.05 8.75,3.05 ; 13.75,3.05 13.75,4.05 16.25,4.05 16.25,3.05 13.75,3.05 ; 18.75,3.05 18.75,4.05 21.25,4.05 21.25,3.05 18.75,3.05 ; 23.75,3.05 23.75,4.05 26.25,4.05 26.25,3.05 23.75,3.05 ; 28.75,3.05 28.75,4.05 31.25,4.05 31.25,3.05 28.75,3.05 ; 33.75,3.05 33.75,4.05 36.25,4.05 36.25,3.05 33.75,3.05 ; 38.75,3.05 38.75,4.05 41.25,4.05 41.25,3.05 38.75,3.05
F.Fab:
  circle w0.254: c0,0 r1.5
  circle w0.254: c5,0 r1.5
  circle w0.254: c10,0 r1.5
  circle w0.254: c15,0 r1.5
  circle w0.254: c20,0 r1.5
  circle w0.254: c25,0 r1.5
  circle w0.254: c30,0 r1.5
  circle w0.254: c35,0 r1.5
  circle w0.254: c40,0 r1.5
  lines w0.254: -2.5,-2.85 42.5,-2.85 ; -2.5,2.05 42.5,2.05 ; -1.138,-0.955 0.955,1.138 ; -0.955,-1.138 1.138,0.955 ; 8.862,-0.955 10.955,1.138 ; 9.045,-1.138 11.138,0.955 ; 18.862,-0.955 20.955,1.138 ; 19.045,-1.138 21.138,0.955 ; 28.862,-0.955 30.955,1.138 ; 29.045,-1.138 31.138,0.955 ; 38.862,-0.955 40.955,1.138 ; 39.045,-1.138 41.138,0.955 ; 42.5,-3.45 -2.5,-3.45 ; -2.5,-3.45 -2.5,4.05 42.5,4.05 42.5,-4.05 -1.9,-4.05 -2.5,-3.45 ; -1.25,3.05 -1.25,4.05 1.25,4.05 1.25,3.05 -1.25,3.05 ; 3.75,3.05 3.75,4.05 6.25,4.05 6.25,3.05 3.75,3.05 ; 8.75,3.05 8.75,4.05 11.25,4.05 11.25,3.05 8.75,3.05 ; 13.75,3.05 13.75,4.05 16.25,4.05 16.25,3.05 13.75,3.05 ; 18.75,3.05 18.75,4.05 21.25,4.05 21.25,3.05 18.75,3.05 ; 23.75,3.05 23.75,4.05 26.25,4.05 26.25,3.05 23.75,3.05 ; 28.75,3.05 28.75,4.05 31.25,4.05 31.25,3.05 28.75,3.05 ; 33.75,3.05 33.75,4.05 36.25,4.05 36.25,3.05 33.75,3.05 ; 38.75,3.05 38.75,4.05 41.25,4.05 41.25,3.05 38.75,3.05
  text "'.Designator'" at 15.953,4.33 h1
F.CrtYd:
  lines w0.254: -3,-4.55 -3,4.55 43,4.55 43,-4.55 -3,-4.55

## TerminalBlock_RND_205-00302_1x06_P10.00mm_Horizontal [mm]
pads (6):
  rrect10% 2.5x2.5 hole 1.3: 1(0,0)
  round 2.5 hole 1.3: 2(10,0) 3(20,0) 4(30,0) 5(40,0) 6(50,0)
F.SilkS:
  circle w0.254: c5,0 r1.5
  circle w0.254: c15,0 r1.5
  circle w0.254: c25,0 r1.5
  circle w0.254: c35,0 r1.5
  circle w0.254: c45,0 r1.5
  region: 0.44,-4.78 -0.44,-4.78 0,-4.17
  lines w0.254: -2.62,-3.45 52.62,-3.45 ; -2.62,-2.85 52.62,-2.85 ; -2.62,2.05 52.62,2.05 ; -0.3,-4.17 -2.62,-4.17 -2.62,4.17 52.62,4.17 52.62,-4.17 0.3,-4.17 ; -1.25,3.05 -1.25,4.05 1.25,4.05 1.25,3.05 -1.25,3.05 ; 3.75,3.05 3.75,4.05 6.25,4.05 6.25,3.05 3.75,3.05 ; 8.75,3.05 8.75,4.05 11.25,4.05 11.25,3.05 8.75,3.05 ; 13.75,3.05 13.75,4.05 16.25,4.05 16.25,3.05 13.75,3.05 ; 18.75,3.05 18.75,4.05 21.25,4.05 21.25,3.05 18.75,3.05 ; 23.75,3.05 23.75,4.05 26.25,4.05 26.25,3.05 23.75,3.05 ; 28.75,3.05 28.75,4.05 31.25,4.05 31.25,3.05 28.75,3.05 ; 33.75,3.05 33.75,4.05 36.25,4.05 36.25,3.05 33.75,3.05 ; 38.75,3.05 38.75,4.05 41.25,4.05 41.25,3.05 38.75,3.05 ; 43.75,3.05 43.75,4.05 46.25,4.05 46.25,3.05 43.75,3.05 ; 48.75,3.05 48.75,4.05 51.25,4.05 51.25,3.05 48.75,3.05
F.Fab:
  circle w0.254: c0,0 r1.5
  circle w0.254: c5,0 r1.5
  circle w0.254: c10,0 r1.5
  circle w0.254: c15,0 r1.5
  circle w0.254: c20,0 r1.5
  circle w0.254: c25,0 r1.5
  circle w0.254: c30,0 r1.5
  circle w0.254: c35,0 r1.5
  circle w0.254: c40,0 r1.5
  circle w0.254: c45,0 r1.5
  circle w0.254: c50,0 r1.5
  lines w0.254: -2.5,-2.85 52.5,-2.85 ; -2.5,2.05 52.5,2.05 ; -1.138,-0.955 0.955,1.138 ; -0.955,-1.138 1.138,0.955 ; 8.862,-0.955 10.955,1.138 ; 9.045,-1.138 11.138,0.955 ; 18.862,-0.955 20.955,1.138 ; 19.045,-1.138 21.138,0.955 ; 28.862,-0.955 30.955,1.138 ; 29.045,-1.138 31.138,0.955 ; 38.862,-0.955 40.955,1.138 ; 39.045,-1.138 41.138,0.955 ; 48.862,-0.955 50.955,1.138 ; 49.045,-1.138 51.138,0.955 ; 52.5,-3.45 -2.5,-3.45 ; -2.5,-3.45 -2.5,4.05 52.5,4.05 52.5,-4.05 -1.9,-4.05 -2.5,-3.45 ; -1.25,3.05 -1.25,4.05 1.25,4.05 1.25,3.05 -1.25,3.05 ; 3.75,3.05 3.75,4.05 6.25,4.05 6.25,3.05 3.75,3.05 ; 8.75,3.05 8.75,4.05 11.25,4.05 11.25,3.05 8.75,3.05 ; 13.75,3.05 13.75,4.05 16.25,4.05 16.25,3.05 13.75,3.05 ; 18.75,3.05 18.75,4.05 21.25,4.05 21.25,3.05 18.75,3.05 ; 23.75,3.05 23.75,4.05 26.25,4.05 26.25,3.05 23.75,3.05 ; 28.75,3.05 28.75,4.05 31.25,4.05 31.25,3.05 28.75,3.05 ; 33.75,3.05 33.75,4.05 36.25,4.05 36.25,3.05 33.75,3.05 ; 38.75,3.05 38.75,4.05 41.25,4.05 41.25,3.05 38.75,3.05 ; 43.75,3.05 43.75,4.05 46.25,4.05 46.25,3.05 43.75,3.05 ; 48.75,3.05 48.75,4.05 51.25,4.05 51.25,3.05 48.75,3.05
  text "'.Designator'" at 20.953,4.33 h1
F.CrtYd:
  lines w0.254: -3,-4.55 -3,4.55 53,4.55 53,-4.55 -3,-4.55

## TerminalBlock_RND_205-00303_1x07_P10.00mm_Horizontal [mm]
pads (7):
  rrect10% 2.5x2.5 hole 1.3: 1(0,0)
  round 2.5 hole 1.3: 2(10,0) 3(20,0) 4(30,0) 5(40,0) 6(50,0) 7(60,0)
F.SilkS:
  circle w0.254: c5,0 r1.5
  circle w0.254: c15,0 r1.5
  circle w0.254: c25,0 r1.5
  circle w0.254: c35,0 r1.5
  circle w0.254: c45,0 r1.5
  circle w0.254: c55,0 r1.5
  region: 0.44,-4.78 -0.44,-4.78 0,-4.17
  lines w0.254: -2.62,-3.45 62.62,-3.45 ; -2.62,-2.85 62.62,-2.85 ; -2.62,2.05 62.62,2.05 ; -0.3,-4.17 -2.62,-4.17 -2.62,4.17 62.62,4.17 62.62,-4.17 0.3,-4.17 ; -1.25,3.05 -1.25,4.05 1.25,4.05 1.25,3.05 -1.25,3.05 ; 3.75,3.05 3.75,4.05 6.25,4.05 6.25,3.05 3.75,3.05 ; 8.75,3.05 8.75,4.05 11.25,4.05 11.25,3.05 8.75,3.05 ; 13.75,3.05 13.75,4.05 16.25,4.05 16.25,3.05 13.75,3.05 ; 18.75,3.05 18.75,4.05 21.25,4.05 21.25,3.05 18.75,3.05 ; 23.75,3.05 23.75,4.05 26.25,4.05 26.25,3.05 23.75,3.05 ; 28.75,3.05 28.75,4.05 31.25,4.05 31.25,3.05 28.75,3.05 ; 33.75,3.05 33.75,4.05 36.25,4.05 36.25,3.05 33.75,3.05 ; 38.75,3.05 38.75,4.05 41.25,4.05 41.25,3.05 38.75,3.05 ; 43.75,3.05 43.75,4.05 46.25,4.05 46.25,3.05 43.75,3.05 ; 48.75,3.05 48.75,4.05 51.25,4.05 51.25,3.05 48.75,3.05 ; 53.75,3.05 53.75,4.05 56.25,4.05 56.25,3.05 53.75,3.05 ; 58.75,3.05 58.75,4.05 61.25,4.05 61.25,3.05 58.75,3.05
F.Fab:
  circle w0.254: c0,0 r1.5
  circle w0.254: c5,0 r1.5
  circle w0.254: c10,0 r1.5
  circle w0.254: c15,0 r1.5
  circle w0.254: c20,0 r1.5
  circle w0.254: c25,0 r1.5
  circle w0.254: c30,0 r1.5
  circle w0.254: c35,0 r1.5
  circle w0.254: c40,0 r1.5
  circle w0.254: c45,0 r1.5
  circle w0.254: c50,0 r1.5
  circle w0.254: c55,0 r1.5
  circle w0.254: c60,0 r1.5
  lines w0.254: -2.5,-2.85 62.5,-2.85 ; -2.5,2.05 62.5,2.05 ; -1.138,-0.955 0.955,1.138 ; -0.955,-1.138 1.138,0.955 ; 8.862,-0.955 10.955,1.138 ; 9.045,-1.138 11.138,0.955 ; 18.862,-0.955 20.955,1.138 ; 19.045,-1.138 21.138,0.955 ; 28.862,-0.955 30.955,1.138 ; 29.045,-1.138 31.138,0.955 ; 38.862,-0.955 40.955,1.138 ; 39.045,-1.138 41.138,0.955 ; 48.862,-0.955 50.955,1.138 ; 49.045,-1.138 51.138,0.955 ; 58.862,-0.955 60.955,1.138 ; 59.045,-1.138 61.138,0.955 ; 62.5,-3.45 -2.5,-3.45 ; -2.5,-3.45 -2.5,4.05 62.5,4.05 62.5,-4.05 -1.9,-4.05 -2.5,-3.45 ; -1.25,3.05 -1.25,4.05 1.25,4.05 1.25,3.05 -1.25,3.05 ; 3.75,3.05 3.75,4.05 6.25,4.05 6.25,3.05 3.75,3.05 ; 8.75,3.05 8.75,4.05 11.25,4.05 11.25,3.05 8.75,3.05 ; 13.75,3.05 13.75,4.05 16.25,4.05 16.25,3.05 13.75,3.05 ; 18.75,3.05 18.75,4.05 21.25,4.05 21.25,3.05 18.75,3.05 ; 23.75,3.05 23.75,4.05 26.25,4.05 26.25,3.05 23.75,3.05 ; 28.75,3.05 28.75,4.05 31.25,4.05 31.25,3.05 28.75,3.05 ; 33.75,3.05 33.75,4.05 36.25,4.05 36.25,3.05 33.75,3.05 ; 38.75,3.05 38.75,4.05 41.25,4.05 41.25,3.05 38.75,3.05 ; 43.75,3.05 43.75,4.05 46.25,4.05 46.25,3.05 43.75,3.05 ; 48.75,3.05 48.75,4.05 51.25,4.05 51.25,3.05 48.75,3.05 ; 53.75,3.05 53.75,4.05 56.25,4.05 56.25,3.05 53.75,3.05 ; 58.75,3.05 58.75,4.05 61.25,4.05 61.25,3.05 58.75,3.05
  text "'.Designator'" at 25.953,4.33 h1
F.CrtYd:
  lines w0.254: -3,-4.55 -3,4.55 63,4.55 63,-4.55 -3,-4.55

## TerminalBlock_RND_205-00304_1x08_P10.00mm_Horizontal [mm]
pads (8):
  rrect10% 2.5x2.5 hole 1.3: 1(0,0)
  round 2.5 hole 1.3: 2(10,0) 3(20,0) 4(30,0) 5(40,0) 6(50,0) 7(60,0) 8(70,0)
F.SilkS:
  circle w0.254: c5,0 r1.5
  circle w0.254: c15,0 r1.5
  circle w0.254: c25,0 r1.5
  circle w0.254: c35,0 r1.5
  circle w0.254: c45,0 r1.5
  circle w0.254: c55,0 r1.5
  circle w0.254: c65,0 r1.5
  region: 0.44,-4.78 -0.44,-4.78 0,-4.17
  lines w0.254: -2.62,-3.45 72.62,-3.45 ; -2.62,-2.85 72.62,-2.85 ; -2.62,2.05 72.62,2.05 ; -0.3,-4.17 -2.62,-4.17 -2.62,4.17 72.62,4.17 72.62,-4.17 0.3,-4.17 ; -1.25,3.05 -1.25,4.05 1.25,4.05 1.25,3.05 -1.25,3.05 ; 3.75,3.05 3.75,4.05 6.25,4.05 6.25,3.05 3.75,3.05 ; 8.75,3.05 8.75,4.05 11.25,4.05 11.25,3.05 8.75,3.05 ; 13.75,3.05 13.75,4.05 16.25,4.05 16.25,3.05 13.75,3.05 ; 18.75,3.05 18.75,4.05 21.25,4.05 21.25,3.05 18.75,3.05 ; 23.75,3.05 23.75,4.05 26.25,4.05 26.25,3.05 23.75,3.05 ; 28.75,3.05 28.75,4.05 31.25,4.05 31.25,3.05 28.75,3.05 ; 33.75,3.05 33.75,4.05 36.25,4.05 36.25,3.05 33.75,3.05 ; 38.75,3.05 38.75,4.05 41.25,4.05 41.25,3.05 38.75,3.05 ; 43.75,3.05 43.75,4.05 46.25,4.05 46.25,3.05 43.75,3.05 ; 48.75,3.05 48.75,4.05 51.25,4.05 51.25,3.05 48.75,3.05 ; 53.75,3.05 53.75,4.05 56.25,4.05 56.25,3.05 53.75,3.05 ; 58.75,3.05 58.75,4.05 61.25,4.05 61.25,3.05 58.75,3.05 ; 63.75,3.05 63.75,4.05 66.25,4.05 66.25,3.05 63.75,3.05 ; 68.75,3.05 68.75,4.05 71.25,4.05 71.25,3.05 68.75,3.05
F.Fab:
  circle w0.254: c0,0 r1.5
  circle w0.254: c5,0 r1.5
  circle w0.254: c10,0 r1.5
  circle w0.254: c15,0 r1.5
  circle w0.254: c20,0 r1.5
  circle w0.254: c25,0 r1.5
  circle w0.254: c30,0 r1.5
  circle w0.254: c35,0 r1.5
  circle w0.254: c40,0 r1.5
  circle w0.254: c45,0 r1.5
  circle w0.254: c50,0 r1.5
  circle w0.254: c55,0 r1.5
  circle w0.254: c60,0 r1.5
  circle w0.254: c65,0 r1.5
  circle w0.254: c70,0 r1.5
  lines w0.254: -2.5,-2.85 72.5,-2.85 ; -2.5,2.05 72.5,2.05 ; -1.138,-0.955 0.955,1.138 ; -0.955,-1.138 1.138,0.955 ; 8.862,-0.955 10.955,1.138 ; 9.045,-1.138 11.138,0.955 ; 18.862,-0.955 20.955,1.138 ; 19.045,-1.138 21.138,0.955 ; 28.862,-0.955 30.955,1.138 ; 29.045,-1.138 31.138,0.955 ; 38.862,-0.955 40.955,1.138 ; 39.045,-1.138 41.138,0.955 ; 48.862,-0.955 50.955,1.138 ; 49.045,-1.138 51.138,0.955 ; 58.862,-0.955 60.955,1.138 ; 59.045,-1.138 61.138,0.955 ; 68.862,-0.955 70.955,1.138 ; 69.045,-1.138 71.138,0.955 ; 72.5,-3.45 -2.5,-3.45 ; -2.5,-3.45 -2.5,4.05 72.5,4.05 72.5,-4.05 -1.9,-4.05 -2.5,-3.45 ; -1.25,3.05 -1.25,4.05 1.25,4.05 1.25,3.05 -1.25,3.05 ; 3.75,3.05 3.75,4.05 6.25,4.05 6.25,3.05 3.75,3.05 ; 8.75,3.05 8.75,4.05 11.25,4.05 11.25,3.05 8.75,3.05 ; 13.75,3.05 13.75,4.05 16.25,4.05 16.25,3.05 13.75,3.05 ; 18.75,3.05 18.75,4.05 21.25,4.05 21.25,3.05 18.75,3.05 ; 23.75,3.05 23.75,4.05 26.25,4.05 26.25,3.05 23.75,3.05 ; 28.75,3.05 28.75,4.05 31.25,4.05 31.25,3.05 28.75,3.05 ; 33.75,3.05 33.75,4.05 36.25,4.05 36.25,3.05 33.75,3.05 ; 38.75,3.05 38.75,4.05 41.25,4.05 41.25,3.05 38.75,3.05 ; 43.75,3.05 43.75,4.05 46.25,4.05 46.25,3.05 43.75,3.05 ; 48.75,3.05 48.75,4.05 51.25,4.05 51.25,3.05 48.75,3.05 ; 53.75,3.05 53.75,4.05 56.25,4.05 56.25,3.05 53.75,3.05 ; 58.75,3.05 58.75,4.05 61.25,4.05 61.25,3.05 58.75,3.05 ; 63.75,3.05 63.75,4.05 66.25,4.05 66.25,3.05 63.75,3.05 ; 68.75,3.05 68.75,4.05 71.25,4.05 71.25,3.05 68.75,3.05
  text "'.Designator'" at 30.953,4.33 h1
F.CrtYd:
  lines w0.254: -3,-4.55 -3,4.55 73,4.55 73,-4.55 -3,-4.55